# Altium footprint library DM7402N.PcbLib: 1 footprints
Each footprint in its own frame and in the unit in brackets; x right, y up, seen from the top. Pads: shape width x height; smd on the part's side, far side on the other; paste and mask are expansions set on the pad; w line width, h text height; cw(c..) or ccw(c..) is an arc to the next point about the centre after c.
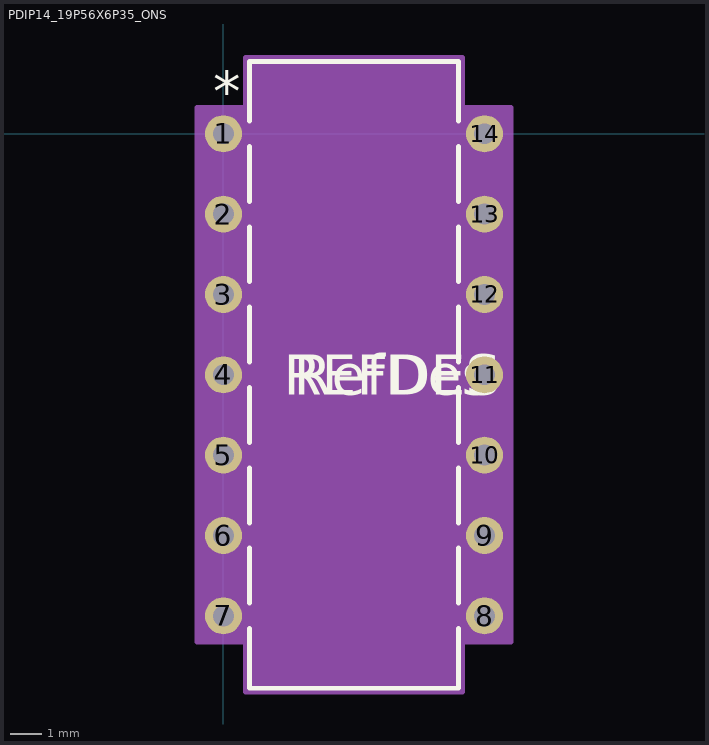
[diagram p0: the footprint, top view; thin cyan lines are the x and y axes]

## PDIP14_19P56X6P35_ONS [mil]
pads (14):
  round 46 / inner round 60 / far side round 46 hole 26 paste-99999 mask+0: 1(0,0) 2(0,-100) 3(0,-200) 4(0,-300) 5(0,-400) 6(0,-500) 7(0,-600) 8(325,-600) 9(325,-500) 10(325,-400) 11(325,-300) 12(325,-200) 13(325,-100) 14(325,0)
Top Overlay:
  lines w6: 32.5,-615.72 32.5,-690.04 292.5,-690.04 292.5,-615.72 ; 32.5,-584.28 32.5,-515.72 ; 32.5,-484.29 32.5,-415.71 ; 32.5,-384.29 32.5,-315.71 ; 32.5,-284.29 32.5,-215.72 ; 32.5,-184.28 32.5,-115.72 ; 32.5,-84.28 32.5,-15.71 ; 32.5,15.71 32.5,90.04 292.5,90.04 292.5,15.71 ; 292.5,-584.28 292.5,-515.72 ; 292.5,-484.29 292.5,-415.71 ; 292.5,-384.29 292.5,-315.71 ; 292.5,-284.29 292.5,-215.72 ; 292.5,-184.28 292.5,-115.72 ; 292.5,-84.28 292.5,-15.71
  text "REFDES" at 75,-325 h50
  text "RefDes" at 87.5,-325 h50
  text "*" at -12.5,28 h50
Mechanical 13:
  lines w0: 150.5,85.04 ccw(c162.5,85.04) 174.5,85.04
  lines w1: -13,-613 37.5,-613 37.5,-587 -13,-587 -13,-613 ; -13,-513 37.5,-513 37.5,-487 -13,-487 -13,-513 ; -13,-413 37.5,-413 37.5,-387 -13,-387 -13,-413 ; -13,-313 37.5,-313 37.5,-287 -13,-287 -13,-313 ; -13,-213 37.5,-213 37.5,-187 -13,-187 -13,-213 ; -13,-113 37.5,-113 37.5,-87 -13,-87 -13,-113 ; -13,-13 37.5,-13 37.5,13 -13,13 -13,-13 ; 37.5,-685.04 37.5,85.04 287.5,85.04 287.5,-685.04 37.5,-685.04 ; 287.5,-613 338,-613 338,-587 287.5,-587 287.5,-613 ; 287.5,-513 338,-513 338,-487 287.5,-487 287.5,-513 ; 287.5,-413 338,-413 338,-387 287.5,-387 287.5,-413 ; 287.5,-313 338,-313 338,-287 287.5,-287 287.5,-313 ; 287.5,-213 338,-213 338,-187 287.5,-187 287.5,-213 ; 287.5,-113 338,-113 338,-87 287.5,-87 287.5,-113 ; 287.5,-13 338,-13 338,13 287.5,13 287.5,-13
  text "RefDes2" at 75,-325 h50
  text "*" at 35,-25 h50
Mechanical 15:
  region: 297.5,-633 358,-633 358,33 297.5,33 297.5,95.04 27.5,95.04 27.5,33 -33,33 -33,-633 27.5,-633 27.5,-695.04 297.5,-695.04
  lines w6: -33,-633 27.5,-633 27.5,-695.04 297.5,-695.04 297.5,-633 358,-633 358,33 297.5,33 297.5,95.04 27.5,95.04 27.5,33 -33,33 -33,-633
3D body "PDIP14_19P56X6P35_ONS.step": height 150.12, standoff -100, extent -5,-685.04 340,85.04